# EAGLE library part 3440-5002 (library 3M_By_element14_Batch_1)
Four-Wall Header
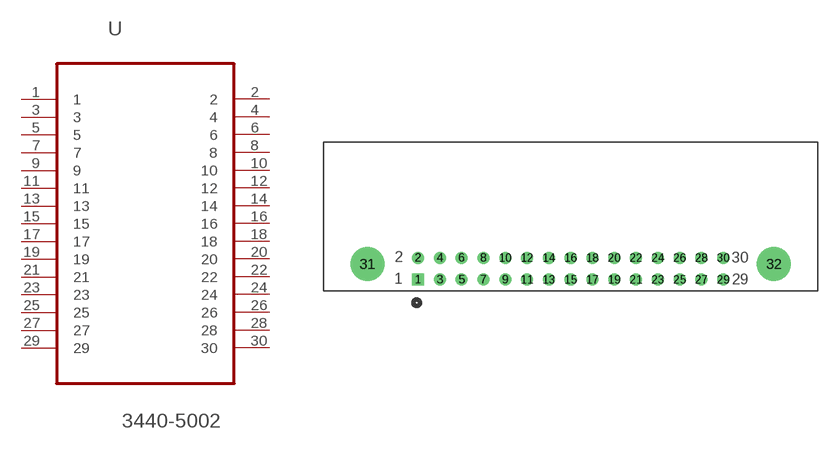
[diagram p55: symbol with the pads of 3M_3440-5002; footprint 3M_3440-5002]

Designator prefix U

## 3440-5002 (MPN: 3440-5002; OC_FARNELL: 1368734; OC_NEWARK: 46F4680; PACKAGE: Four-Wall Header , 30 way; SUPPLIER: 3M)  [3M_3440-5002]
1  1  pas
2  2  pas
3  3  pas
4  4  pas
5  5  pas
6  6  pas
7  7  pas
8  8  pas
9  9  pas
10  10  pas
11  11  pas
12  12  pas
13  13  pas
14  14  pas
15  15  pas
16  16  pas
17  17  pas
18  18  pas
19  19  pas
20  20  pas
21  21  pas
22  22  pas
23  23  pas
24  24  pas
25  25  pas
26  26  pas
27  27  pas
28  28  pas
29  29  pas
30  30  pas

## Footprint 3M_3440-5002 (pad centres in mm)
drill 0.889 square: 1 -35.56,-2.54
drill 0.889: 2 -35.56,0; 3 -33.02,-2.54; 4 -33.02,0; 5 -30.48,-2.54; 6 -30.48,0; 7 -27.94,-2.54; 8 -27.94,0; 9 -25.4,-2.54; 10 -25.4,0; 11 -22.86,-2.54; 12 -22.86,0; 13 -20.32,-2.54; 14 -20.32,0; 15 -17.78,-2.54; 16 -17.78,0; 17 -15.24,-2.54; 18 -15.24,0; 19 -12.7,-2.54; 20 -12.7,0; 21 -10.16,-2.54; 22 -10.16,0; 23 -7.62,-2.54; 24 -7.62,0; 25 -5.08,-2.54; 26 -5.08,0; 27 -2.54,-2.54; 28 -2.54,0; 29 0,-2.54; 30 0,0
drill 2.946: 31 -41.453,-0.737; 32 5.893,-0.737